# EAGLE library part BMP180 (library exoteric-analytics-custom)
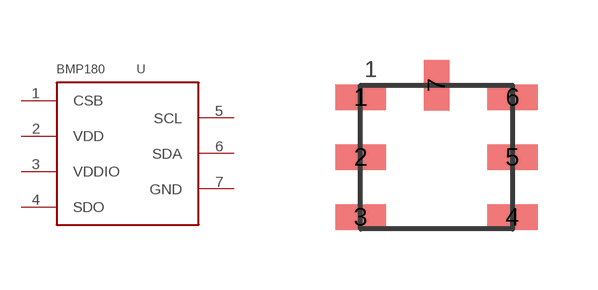
[diagram p6: symbol with the pads of BMP180; footprint BMP180]

Designator prefix U

## BMP180  [BMP180]
1  CSB  nc
2  VDD  pwr
3  VDDIO  pwr
4  SDO  nc
5  SCL
6  SDA
7  GND  pwr

## Footprint BMP180 (pad centres in mm)
smd 1.27 x 0.635: 1 -1.9,1.5; 2 -1.9,0; 3 -1.9,-1.5; 4 1.9,-1.5; 5 1.9,0; 6 1.9,1.5
smd 0.635 x 1.27: 7 0,1.8